# Altium footprint library Capacitors.PcbLib: 10 footprints
Each footprint in its own frame and in the unit in brackets; x right, y up, seen from the top. Pads: shape width x height; smd on the part's side, far side on the other; paste and mask are expansions set on the pad; w line width, h text height; cw(c..) or ccw(c..) is an arc to the next point about the centre after c.
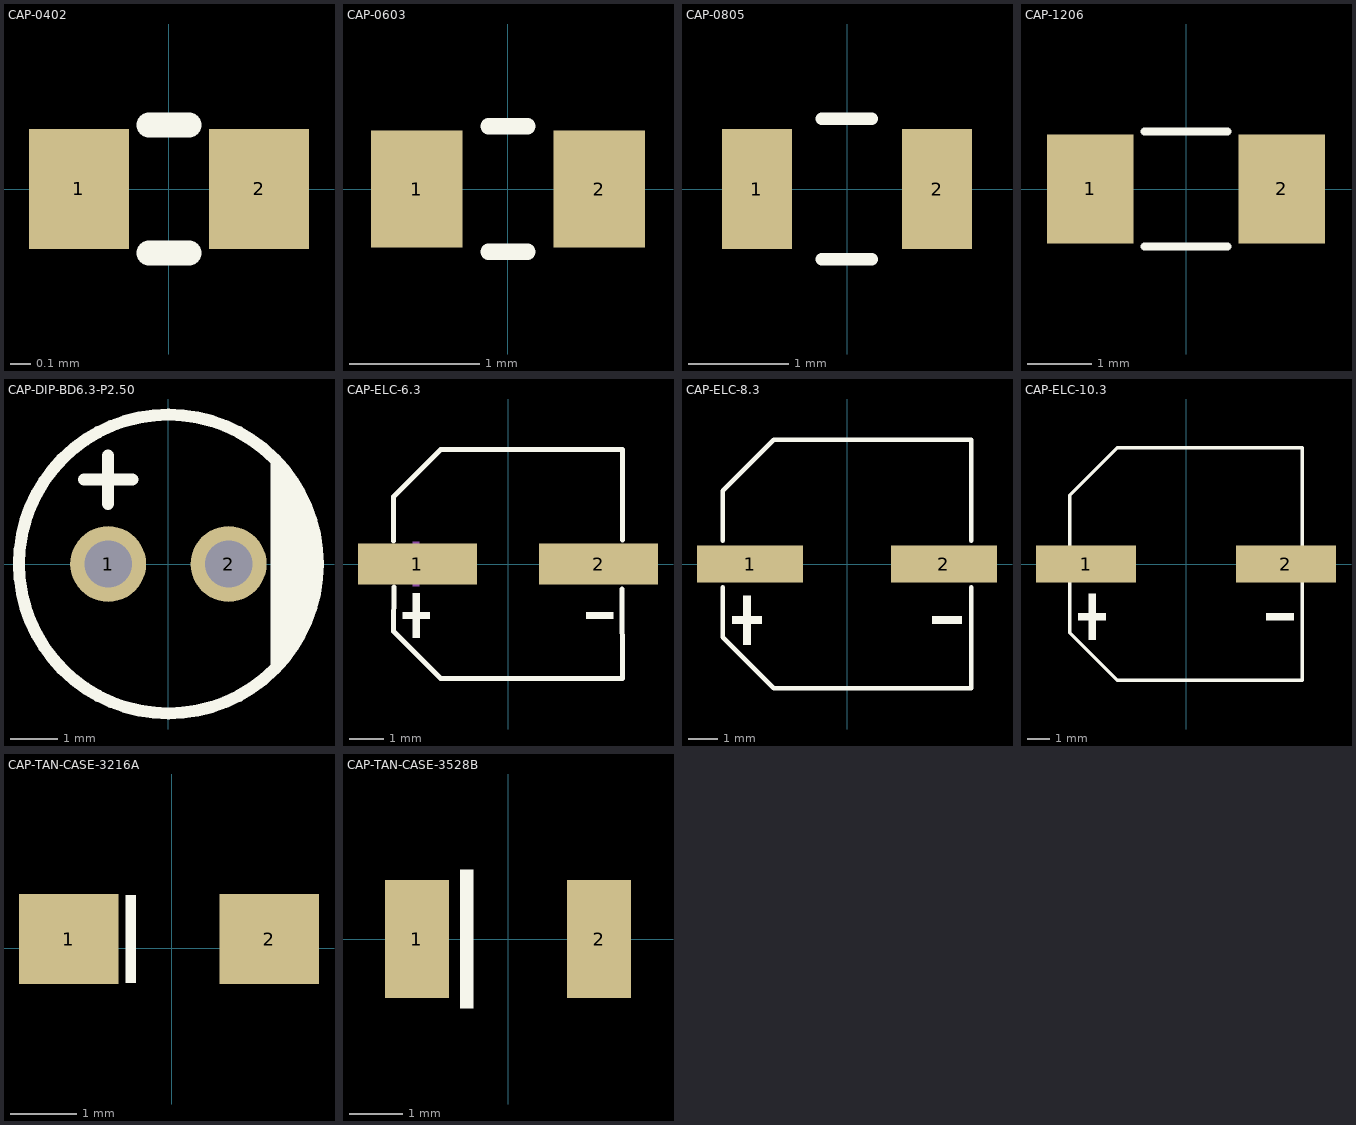
[diagram p0: the footprints below, top view; thin cyan lines are the x and y axes]

## CAP-0402 [mm] "Capacitors"
height 15.49
pads (2):
  rect 0.5x0.6 smd mask+0.051: 1(-0.45,0) 2(0.45,0)
Top Overlay:
  lines w0.125: -0.1,-0.32 0.1,-0.32 ; -0.1,0.32 0.1,0.32
3D body "User Library-Capacitor 0402.step": height 0.5, standoff 0, extent -0.5,-0.25 0.5,0.25

## CAP-0603 [mm] "Capacitors"
height 15.49
pads (2):
  rect 0.7x0.9 smd: 1(-0.7,0) 2(0.7,0)
Top Overlay:
  lines w0.125: -0.15,-0.48 0.15,-0.48 ; -0.15,0.48 0.15,0.48
3D body "C 0603.STEP": height 0.81, standoff -0.01, extent -0.8,-0.41 0.8,0.41

## CAP-0805 [mm] "Capacitors"
height 15.49
pads (2):
  rect 0.7x1.2 smd: 1(-0.9,0) 2(0.9,0)
Top Overlay:
  lines w0.125: -0.25,-0.7 0.25,-0.7 ; -0.25,0.7 0.25,0.7
3D body "C 0805.STEP": height 0.51, standoff -0.01, extent -1,-0.61 1,0.61

## CAP-1206 [mm] "Capacitors"
height 2.8
pads (2):
  rect 1.35x1.7 smd: 1(-1.5,0) 2(1.5,0)
Top Overlay:
  lines w0.125: -0.65,-0.9 0.65,-0.9 ; -0.65,0.9 0.65,0.9
3D body "C1206.STEP": height 1, standoff 0, extent -1.6,-0.8 1.6,0.8

## CAP-DIP-BD6.3-P2.50 [mm] "BD6.3-P2.50-D1.0-FD"
pads (2):
  round 1.6 hole 1: 1(-1.27,0) 2(1.27,0)
Top Overlay:
  circle w0.254: c0,0 r3.15
  region: 2.159,2.286 2.319,2.142 2.595,1.812 2.822,1.447 2.997,1.054 3.115,0.641 3.175,0.215 3.175,-0.215 3.115,-0.641 2.997,-1.054 2.822,-1.447 2.595,-1.812 2.319,-2.142 2.159,-2.286
  lines w0.254: -1.778,1.778 -0.762,1.778 ; -1.27,1.27 -1.27,2.286
3D body "插件,D6.3xL11mm.step": height 11.31, standoff -3.3, extent -3.15,-3.15 3.16,3.15

## CAP-ELC-6.3 [mm] "Electrolytic Capacitor"
pads (2):
  rect 3.5x1.2 smd: 1(-2.67,0) 2(2.67,0)
Top Overlay:
  region: 3.102,-1.419 3.102,-1.617 2.31,-1.617 2.31,-1.419
  region: -3.102,-1.419 -3.102,-1.617 -2.31,-1.617 -2.31,-1.419
  region: -2.805,-0.858 -2.805,-2.178 -2.607,-2.178 -2.607,-0.858
  lines w0.152: -3.376,0.686 -3.376,1.98 -1.98,3.376 3.376,3.376 3.369,0.707 ; -3.362,-0.686 -3.376,-1.981 -1.981,-3.376 3.376,-3.376 3.356,-0.74
Mechanical 15:
  region: 3.102,0.099 3.102,-0.099 2.31,-0.099 2.31,0.099
  region: -3.102,0.099 -3.102,-0.099 -2.31,-0.099 -2.31,0.099
  region: -2.81,0.66 -2.81,-0.66 -2.612,-0.66 -2.612,0.66
3D body "User Library-CAP SMD SVP 6_3x5_9.STEP": height 5.9, standoff 0, extent -3.64,-3.3 3.66,3.3

## CAP-ELC-8.3 [mm] "Electrolytic Capacitor"
pads (2):
  rect 3.61x1.26 smd: 1(-3.295,0) 2(3.295,0)
Top Overlay:
  region: -3.528,-1.079 -3.528,-2.739 -3.279,-2.739 -3.279,-1.079
  region: -3.901,-1.785 -3.901,-2.033 -2.905,-2.033 -2.905,-1.785
  region: 3.901,-1.785 3.901,-2.033 2.905,-2.033 2.905,-1.785
  lines w0.152: -4.226,-0.782 -4.226,-2.49 -2.49,-4.226 4.226,-4.226 4.226,-0.782 ; -4.226,0.782 -4.226,2.49 -2.49,4.226 4.226,4.226 4.226,0.782
Mechanical 15:
  region: -3.901,0.125 -3.901,-0.125 -2.905,-0.125 -2.905,0.125
  region: 3.901,0.125 3.901,-0.125 2.905,-0.125 2.905,0.125
3D body "User Library-ALU-E.STEP": height 6.2, standoff 0, extent -4.5,-4.15 4.5,4.15

## CAP-ELC-10.3 [mm] "Electrolytic Capacitor"
pads (2):
  rect 4.5x1.65 smd: 1(-4.5,0) 2(4.5,0)
Top Overlay:
  region: -4.378,-1.339 -4.378,-3.399 -4.068,-3.399 -4.068,-1.339
  region: -4.841,-2.214 -4.841,-2.523 -3.605,-2.523 -3.605,-2.214
  region: 4.841,-2.214 4.841,-2.523 3.605,-2.523 3.605,-2.214
  lines w0.152: -5.226,-0.852 -5.226,-3.09 -3.09,-5.226 5.226,-5.226 5.226,-0.852 ; -5.226,0.852 -5.226,3.09 -3.09,5.226 5.226,5.226 5.226,0.852
Mechanical 15:
  region: -4.841,0.155 -4.841,-0.155 -3.605,-0.155 -3.605,0.155
  region: 4.841,0.155 4.841,-0.155 3.605,-0.155 3.605,0.155
3D body "User Library-ALU-G.STEP": height 10.2, standoff 0, extent -5.8,-5.15 5.8,5.15

## CAP-TAN-CASE-3216A [mm] "Tantalum Capacitors"
height 2.8
pads (2):
  rect 1.5x1.35 smd: 1(-1.55,0.14) 2(1.47,0.14)
Top Overlay:
  region: -0.54,0.8 -0.692,0.8 -0.692,-0.521 -0.54,-0.521
3D body "User Library-AVX_ACASE.STEP": height 1.71, standoff 0, extent -1.74,-0.7 1.66,0.98

## CAP-TAN-CASE-3528B [mm] "Tantalum Capacitors"
height 2.8
pads (2):
  rect 1.2x2.2 smd: 1(-1.7,0) 2(1.7,0)
Top Overlay:
  region: -0.645,1.295 -0.899,1.295 -0.899,-1.295 -0.645,-1.295
3D body "User Library-AVX_BCASE.STEP": height 2.03, standoff 0, extent -1.85,-1.465 1.85,1.465